# Altium integrated library Analog_IC.IntLib: 3 symbols
Pins are listed as number, name and electrical type; pins without a type are passive.

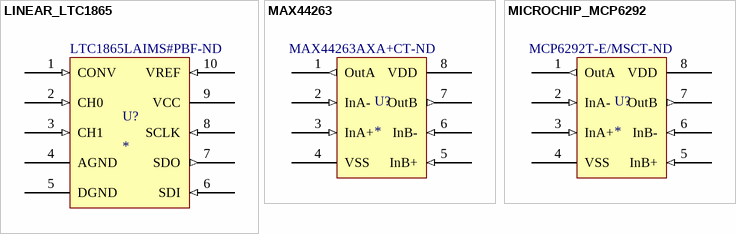
[diagram p0: symbols LINEAR_LTC1865 to MICROCHIP_MCP6292]

## LINEAR_LTC1865
designator U?  Supplier Part Number 1: LTC1865LAIMS#PBF-ND
2x16b_16ksps_ADC; Supplier 1: Digikey
footprint LINEAR_LTC1865_MSOP10 (TSSOP, 10-Leads, Body 3.00x3.00mm, Pitch 0.50mm, IPC High Density)
pins: 1 CONV (in), 2 CH0 (in), 3 CH1 (in), 4 AGND (power), 5 DGND (power), 6 SDI (in), 7 SDO (out), 8 SCLK (in), 9 VCC (power), 10 VREF (in)

## MAX44263
designator U?  Supplier Part Number 1: MAX44263AXA+CT-ND
Dual 15MHz Rail-rail Opa; Supplier 1: Digikey
footprint MAX44263 SC70-8 (TSSOP, 8-Leads, Body 2.00x1.25mm, Pitch 0.50mm, IPC High Density)
pins: 1 OutA (out), 2 InA- (in), 3 InA+ (in), 4 VSS (power), 5 InB+ (in), 6 InB- (in), 7 OutB (out), 8 VDD (power)

## MICROCHIP_MCP6292
designator U?  Supplier Part Number 1: MCP6292T-E/MSCT-ND
Dual 10MHz R-R OPA; Supplier 1: Digi-Key
footprint MICROCHIP_MCP6292_MSOP-8 (TSOP, 8-Leads, Body 3.00x3.00mm, Pitch 0.65mm, IPC High Density)
pins: 1 OutA (out), 2 InA- (in), 3 InA+ (in), 4 VSS (power), 5 InB+ (in), 6 InB- (in), 7 OutB (out), 8 VDD (power)